# EAGLE library part C8051F120 (library Zoli2_2015-01-28)
Mixed signal microcontroller
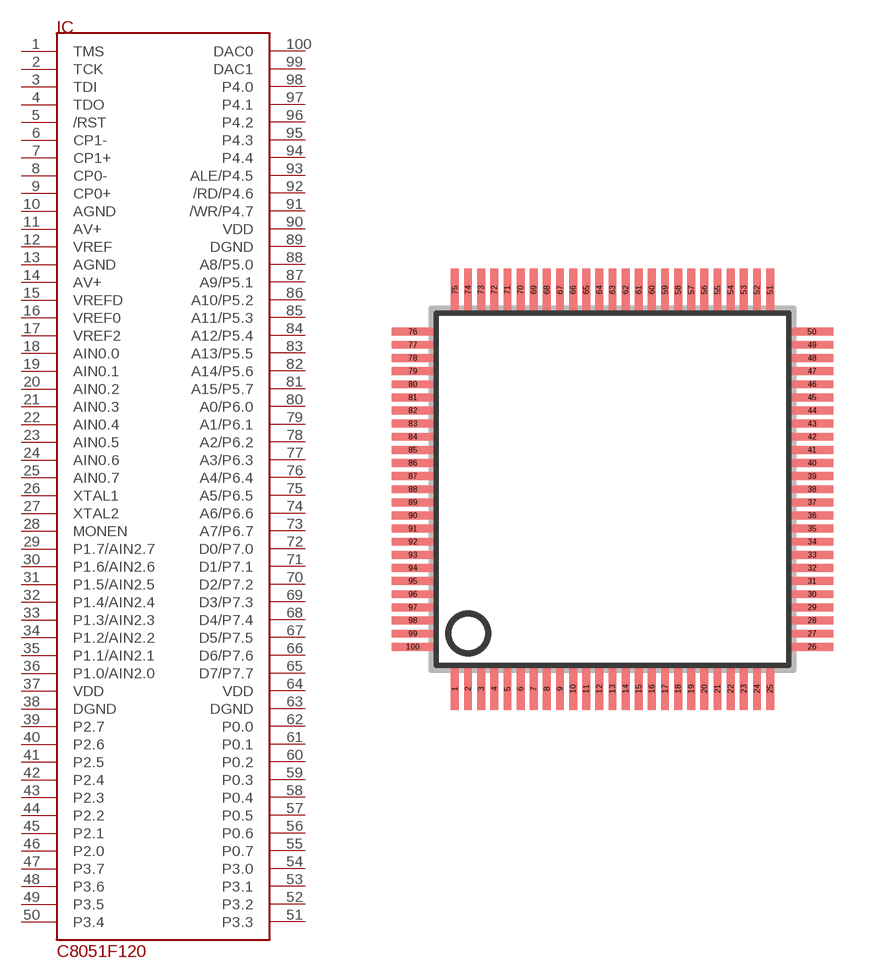
[diagram p17: symbol with the pads of TQFP100; footprint TQFP100]

Designator prefix IC

## C8051F120  [TQFP100]
1  TMS  in
2  TCK  in
3  TDI  in
4  TDO  out
5  /RST
6  CP1-  in
7  CP1+  in
8  CP0-  in
9  CP0+  in
10  AGND  pwr
11  AV+  pwr
12  VREF
13  AGND  pwr
14  AV+  pwr
15  VREFD  in
16  VREF0  in
17  VREF2  in
18  AIN0.0  in
19  AIN0.1  in
20  AIN0.2  in
21  AIN0.3  in
22  AIN0.4  in
23  AIN0.5  in
24  AIN0.6  in
25  AIN0.7  in
26  XTAL1  in
27  XTAL2  out
28  MONEN  in
29  P1.7/AIN2.7
30  P1.6/AIN2.6
31  P1.5/AIN2.5
32  P1.4/AIN2.4
33  P1.3/AIN2.3
34  P1.2/AIN2.2
35  P1.1/AIN2.1
36  P1.0/AIN2.0
37  VDD  pwr
38  DGND  pwr
39  P2.7
40  P2.6
41  P2.5
42  P2.4
43  P2.3
44  P2.2
45  P2.1
46  P2.0
47  P3.7
48  P3.6
49  P3.5
50  P3.4
51  P3.3
52  P3.2
53  P3.1
54  P3.0
55  P0.7
56  P0.6
57  P0.5
58  P0.4
59  P0.3
60  P0.2
61  P0.1
62  P0.0
63  DGND  pwr
64  VDD  pwr
65  D7/P7.7
66  D6/P7.6
67  D5/P7.5
68  D4/P7.4
69  D3/P7.3
70  D2/P7.2
71  D1/P7.1
72  D0/P7.0
73  A7/P6.7
74  A6/P6.6
75  A5/P6.5
76  A4/P6.4
77  A3/P6.3
78  A2/P6.2
79  A1/P6.1
80  A0/P6.0
81  A15/P5.7
82  A14/P5.6
83  A13/P5.5
84  A12/P5.4
85  A11/P5.3
86  A10/P5.2
87  A9/P5.1
88  A8/P5.0
89  DGND  pwr
90  VDD  pwr
91  /WR/P4.7
92  /RD/P4.6
93  ALE/P4.5
94  P4.4
95  P4.3
96  P4.2
97  P4.1
98  P4.0
99  DAC1  out
100  DAC0  out

## Footprint TQFP100 (pad centres in mm)
smd 0.3 x 1.6: 1 -6,-7.6; 2 -5.5,-7.6; 3 -5,-7.6; 4 -4.5,-7.6; 5 -4,-7.6; 6 -3.5,-7.6; 7 -3,-7.6; 8 -2.5,-7.6; 9 -2,-7.6; 10 -1.5,-7.6; 11 -1,-7.6; 12 -0.5,-7.6; 13 0,-7.6; 14 0.5,-7.6; 15 1,-7.6; 16 1.5,-7.6; 17 2,-7.6; 18 2.5,-7.6; 19 3,-7.6; 20 3.5,-7.6; 21 4,-7.6; 22 4.5,-7.6; 23 5,-7.6; 24 5.5,-7.6; 25 6,-7.6; 51 6,7.6; 52 5.5,7.6; 53 5,7.6; 54 4.5,7.6; 55 4,7.6; 56 3.5,7.6; 57 3,7.6; 58 2.5,7.6; 59 2,7.6; 60 1.5,7.6; 61 1,7.6; 62 0.5,7.6; 63 0,7.6; 64 -0.5,7.6; 65 -1,7.6; 66 -1.5,7.6; 67 -2,7.6; 68 -2.5,7.6; 69 -3,7.6; 70 -3.5,7.6; 71 -4,7.6; 72 -4.5,7.6; 73 -5,7.6; 74 -5.5,7.6; 75 -6,7.6
smd 1.6 x 0.3: 26 7.6,-6; 27 7.6,-5.5; 28 7.6,-5; 29 7.6,-4.5; 30 7.6,-4; 31 7.6,-3.5; 32 7.6,-3; 33 7.6,-2.5; 34 7.6,-2; 35 7.6,-1.5; 36 7.6,-1; 37 7.6,-0.5; 38 7.6,0; 39 7.6,0.5; 40 7.6,1; 41 7.6,1.5; 42 7.6,2; 43 7.6,2.5; 44 7.6,3; 45 7.6,3.5; 46 7.6,4; 47 7.6,4.5; 48 7.6,5; 49 7.6,5.5; 50 7.6,6; 76 -7.6,6; 77 -7.6,5.5; 78 -7.6,5; 79 -7.6,4.5; 80 -7.6,4; 81 -7.6,3.5; 82 -7.6,3; 83 -7.6,2.5; 84 -7.6,2; 85 -7.6,1.5; 86 -7.6,1; 87 -7.6,0.5; 88 -7.6,0; 89 -7.6,-0.5; 90 -7.6,-1; 91 -7.6,-1.5; 92 -7.6,-2; 93 -7.6,-2.5; 94 -7.6,-3; 95 -7.6,-3.5; 96 -7.6,-4; 97 -7.6,-4.5; 98 -7.6,-5; 99 -7.6,-5.5; 100 -7.6,-6